# Altium footprint library STM32F407VGT6.PcbLib: 1 footprints
Each footprint in its own frame and in the unit in brackets; x right, y up, seen from the top. Pads: shape width x height; smd on the part's side, far side on the other; paste and mask are expansions set on the pad; w line width, h text height; cw(c..) or ccw(c..) is an arc to the next point about the centre after c.
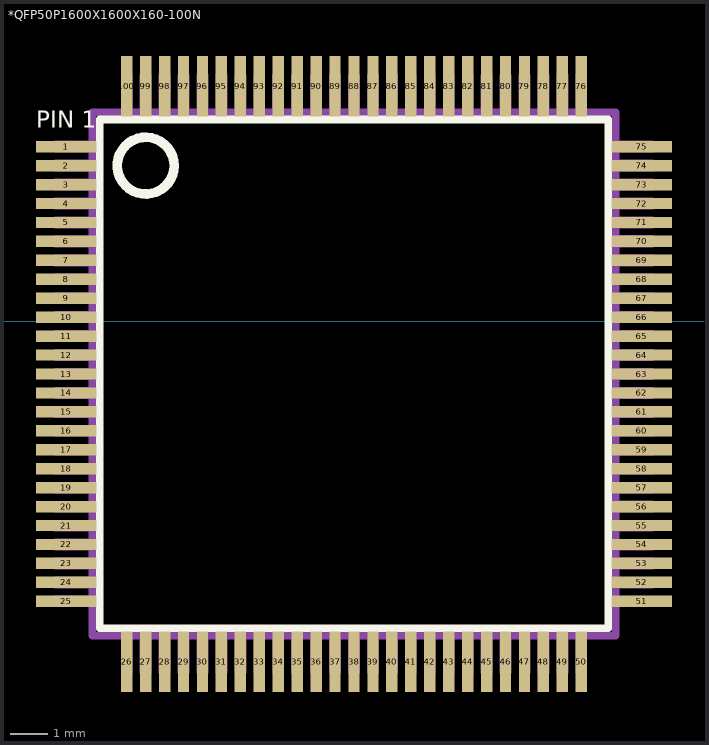
[diagram p0: the footprint, top view; thin cyan lines are the x and y axes]

## *QFP50P1600X1600X160-100N [mm]
pads (100):
  rect 1.6x0.3 smd: 1(-47.097,4.603) 2(-47.097,4.103) 3(-47.097,3.603) 4(-47.097,3.103) 5(-47.097,2.603) 6(-47.097,2.103) 7(-47.097,1.603) 8(-47.097,1.103) 9(-47.097,0.603) 10(-47.097,0.103) 11(-47.097,-0.397) 12(-47.097,-0.897) 13(-47.097,-1.397) 14(-47.097,-1.897) 15(-47.097,-2.397) 16(-47.097,-2.897) 17(-47.097,-3.397) 18(-47.097,-3.897) 19(-47.097,-4.397) 20(-47.097,-4.897) 21(-47.097,-5.397) 22(-47.097,-5.897) 23(-47.097,-6.397) 24(-47.097,-6.897) 25(-47.097,-7.397) 51(-31.897,-7.397) 52(-31.897,-6.897) 53(-31.897,-6.397) 54(-31.897,-5.897) 55(-31.897,-5.397) 56(-31.897,-4.897) 57(-31.897,-4.397) 58(-31.897,-3.897) 59(-31.897,-3.397) 60(-31.897,-2.897) 61(-31.897,-2.397) 62(-31.897,-1.897) 63(-31.897,-1.397) 64(-31.897,-0.897) 65(-31.897,-0.397) 66(-31.897,0.103) 67(-31.897,0.603) 68(-31.897,1.103) 69(-31.897,1.603) 70(-31.897,2.103) 71(-31.897,2.603) 72(-31.897,3.103) 73(-31.897,3.603) 74(-31.897,4.103) 75(-31.897,4.603)
  rect 0.3x1.6 smd: 26(-45.497,-8.997) 27(-44.997,-8.997) 28(-44.497,-8.997) 29(-43.997,-8.997) 30(-43.497,-8.997) 31(-42.997,-8.997) 32(-42.497,-8.997) 33(-41.997,-8.997) 34(-41.497,-8.997) 35(-40.997,-8.997) 36(-40.497,-8.997) 37(-39.997,-8.997) 38(-39.497,-8.997) 39(-38.997,-8.997) 40(-38.497,-8.997) 41(-37.997,-8.997) 42(-37.497,-8.997) 43(-36.997,-8.997) 44(-36.497,-8.997) 45(-35.997,-8.997) 46(-35.497,-8.997) 47(-34.997,-8.997) 48(-34.497,-8.997) 49(-33.997,-8.997) 50(-33.497,-8.997) 76(-33.497,6.203) 77(-33.997,6.203) 78(-34.497,6.203) 79(-34.997,6.203) 80(-35.497,6.203) 81(-35.997,6.203) 82(-36.497,6.203) 83(-36.997,6.203) 84(-37.497,6.203) 85(-37.997,6.203) 86(-38.497,6.203) 87(-38.997,6.203) 88(-39.497,6.203) 89(-39.997,6.203) 90(-40.497,6.203) 91(-40.997,6.203) 92(-41.497,6.203) 93(-41.997,6.203) 94(-42.497,6.203) 95(-42.997,6.203) 96(-43.497,6.203) 97(-43.997,6.203) 98(-44.497,6.203) 99(-44.997,6.203) 100(-45.497,6.203)
Top Overlay:
  circle w0.254: c-44.997,4.103 r0.75
  lines w0.203: -46.207,-8.107 -46.207,5.323 -32.787,5.323 -32.787,-8.107 -46.207,-8.107
  text "PIN 1" at -47.879,4.953 h0.76
Mechanical 4:
  drawing of 208 lines, arcs and shapes, not listed
3D body "LQFP__0.STEP": height 2.22, standoff 0.07, extent -47.371,-10.167 -31.362,5.842